# Altium schematic symbol library NEO-M8N-0.SchLib: 1 symbol
Pins are listed as number, name and electrical type; pins without a type are passive.

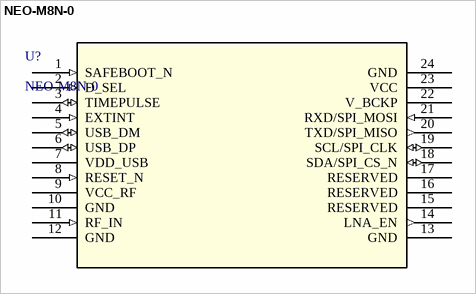
[diagram p0: symbol NEO-M8N-0]

## NEO-M8N-0
designator U?
Description; Manufacturer_Name: Ublox; Type: RF; Copyright: Copyright (C) 2025 Ultra Librarian. All rights reserved.; Manufacturer_Part_Number: NEO-M8N-0; RefDes: RefDes
footprint MOD24_NEO-M8x_UBL
pins: 1 SAFEBOOT_N (in), 2 D_SEL (in), 3 TIMEPULSE (io), 4 EXTINT (in), 5 USB_DM (io), 6 USB_DP (io), 7 VDD_USB (power), 8 RESET_N (in), 9 VCC_RF (power), 10 GND (power), 11 RF_IN (in), 12 GND (power), 13 GND (power), 14 LNA_EN (out), 15 RESERVED, 16 RESERVED, 17 RESERVED, 18 SDA/SPI_CS_N (io), 19 SCL/SPI_CLK (io), 20 TXD/SPI_MISO (out), 21 RXD/SPI_MOSI (in), 22 V_BCKP (power), 23 VCC (power), 24 GND (power)